# Altium integrated library CH340.IntLib: 1 symbol
Pins are listed as number, name and electrical type; pins without a type are passive.

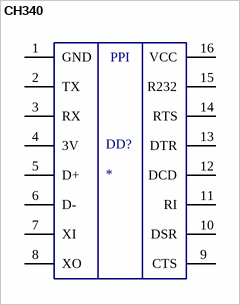
[diagram p0: symbol CH340]

## CH340
designator DD?
Circuit Breaker Magnetic 3Pole 40A 240VAC; MF: Eaton; MP: CH340; Availability: Unavailable; Price: None; Package: None; Value: *; SnapEDA_Link: https://www.snapeda.com/parts/CH340/Eaton/view-part/4701946/?ref=snap
footprint SOIC16
pins: 1 GND, 2 TX, 3 RX, 4 3V, 5 D+, 6 D-, 7 XI, 8 XO, 9 CTS, 10 DSR, 11 RI, 12 DCD, 13 DTR, 14 RTS, 15 R232, 16 VCC
text: PPI